# Altium footprint library BoardC.PcbLib: 6 footprints
Each footprint in its own frame and in the unit in brackets; x right, y up, seen from the top. Pads: shape width x height; smd on the part's side, far side on the other; paste and mask are expansions set on the pad; w line width, h text height; cw(c..) or ccw(c..) is an arc to the next point about the centre after c.
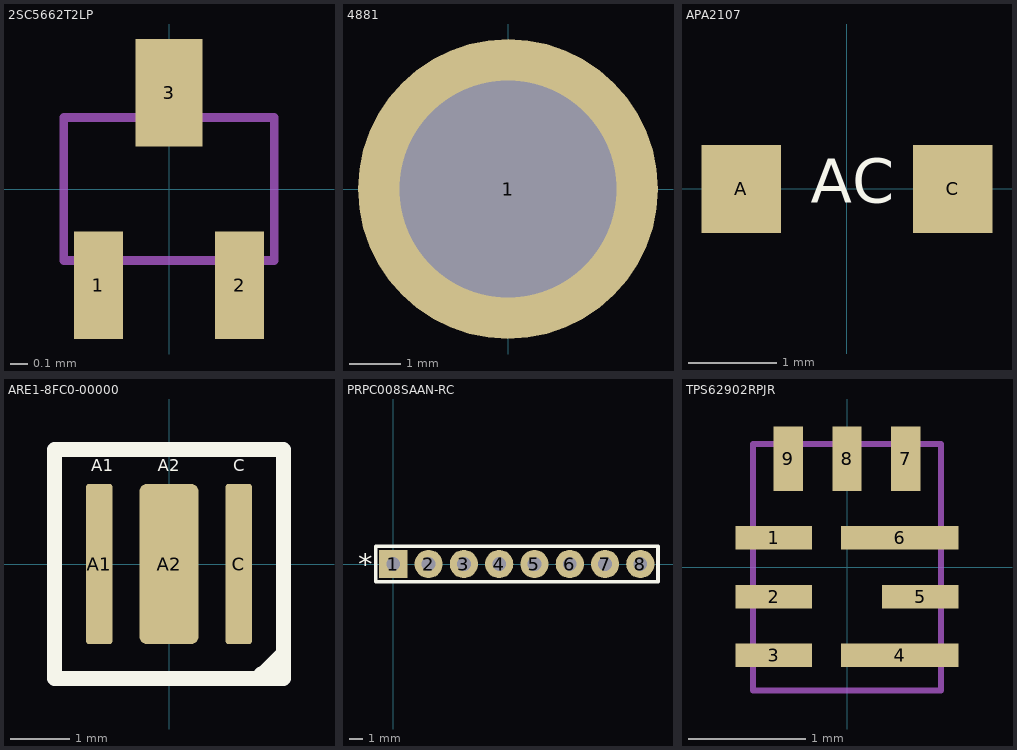
[diagram p0: the footprints below, top view; thin cyan lines are the x and y axes]

## 2SC5662T2LP [mil] "SOT143, 4-Leads, Body 2.92x2.37mm, Pitch 1.90mm, IPC Medium Density"
height 47.24
pads (3):
  rect 11x24 smd: 1(-15.75,-21.5) 2(15.75,-21.5)
  rect 15x24 smd: 3(0,21.5)
Mechanical 15:
  lines w1.97: -23.5,-16 23.5,-16 23.5,16 -23.5,16 -23.5,-16
3D body "2SC5662T2LP.step": height 24.09, standoff 0, extent -23.5,-25.5 23.51,25.52

## 4881 [mil]
pads (1):
  round 230 hole 166: 1(0,0)
3D body "4881.step": height 62, standoff -60, extent -109.5,-110 109.5,108.75

## APA2107 [mm]
pads (2):
  rect 0.9x1 smd: A(-1.2,0) C(1.2,0)
Top Overlay:
  text "AC" at -0.408,-0.154 h0.5
3D body "APA2107.STEP": height 0.6, standoff 0, extent -1.05,-0.001 1.05,1

## ARE1-8FC0-00000 [mm]
pads (3):
  rrect25% 0.45x2.7 smd: A1(-1.175,0) C(1.175,0)
  rrect25% 1x2.7 smd: A2(0,0)
Top Overlay:
  lines w0.254: 1.549,-1.854 1.549,-1.88 1.88,-1.549 ; -1.925,-1.925 1.925,-1.925 1.925,1.925 -1.925,1.925 -1.925,-1.925
  text "A1" at -1.306,1.564 h0.2
  text "A2" at -0.189,1.564 h0.2
  text "C" at 1.081,1.564 h0.2
3D body "ARE1-8FC0-00000.step": height 1.51, standoff 0, extent -1.945,-1.95 1.905,1.9

## PRPC008SAAN-RC [mil]
pads (8):
  rect 80x80 hole 39: 1(0,0)
  round 80 hole 39: 2(100,0) 3(200,0) 4(300,0) 5(400,0) 6(500,0) 7(600,0) 8(700,0)
Top Overlay:
  lines w10: -50,-50 750,-50 750,50 -50,50 -50,-50
  text "*" at -100,-30 h60
3D body "PRPC008SAAN-RC.STEP": height 300, standoff -120.08, extent -50,-50.88 750,49.12

## TPS62902RPJR [mm]
pads (9):
  rrect1% 0.65x0.2 smd: 1(-0.625,0.25) 2(-0.625,-0.25) 3(-0.625,-0.75) 5(0.625,-0.25)
  rrect1% 1x0.2 smd: 4(0.45,-0.75) 6(0.45,0.25)
  rrect1% 0.25x0.55 smd: 7(0.5,0.925) 8(0,0.925) 9(-0.5,0.925)
Mechanical 15:
  lines w0.05: -0.8,-1.05 0.8,-1.05 0.8,1.05 -0.8,1.05 -0.8,-1.05
3D body "TPS62902.stp": height 0.9, standoff 0, extent -0.75,-1 0.75,1